# EAGLE library part EPM7064-P100 (library altera)
EPM7064 MAX 7000 family
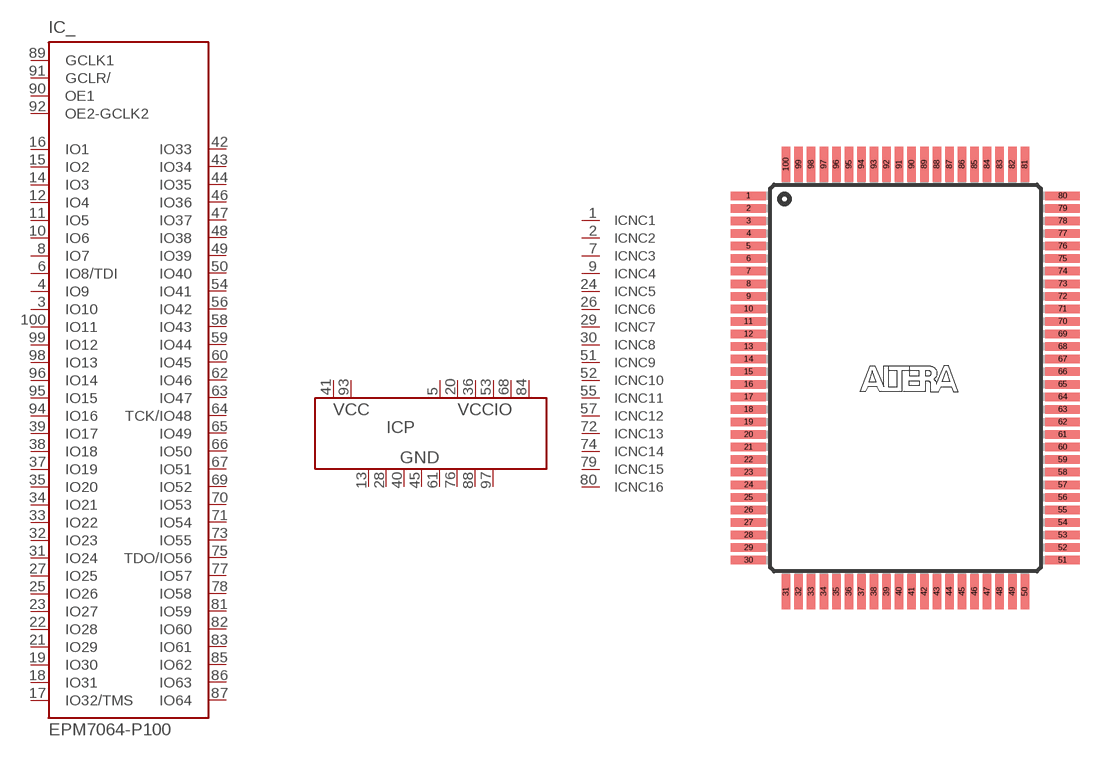
[diagram p5: symbol with the pads of PQFP100; footprint PQFP100]

Designator prefix IC; gates _=EPM7064S P=PWR8-2-6 NC1=NC NC2=NC NC3=NC NC4=NC NC5=NC NC6=NC NC7=NC NC8=NC NC9=NC NC10=NC NC11=NC NC12=NC NC13=NC NC14=NC NC15=NC NC16=NC

## EPM7064-P100 (MPN: EPM7064STI100-7N; OC_FARNELL: 1549426; OC_NEWARK: 51R9650)  [PQFP100]
1  NC1:NC  nc
2  NC2:NC  nc
3  _:IO10
4  _:IO9
5  P:VCCIO  pwr
6  _:IO8/TDI
7  NC3:NC  nc
8  _:IO7
9  NC4:NC  nc
10  _:IO6
11  _:IO5
12  _:IO4
13  P:GND  pwr
14  _:IO3
15  _:IO2
16  _:IO1
17  _:IO32/TMS
18  _:IO31
19  _:IO30
20  P:VCCIO  pwr
21  _:IO29
22  _:IO28
23  _:IO27
24  NC5:NC  nc
25  _:IO26
26  NC6:NC  nc
27  _:IO25
28  P:GND  pwr
29  NC7:NC  nc
30  NC8:NC  nc
31  _:IO24
32  _:IO23
33  _:IO22
34  _:IO21
35  _:IO20
36  P:VCCIO  pwr
37  _:IO19
38  _:IO18
39  _:IO17
40  P:GND  pwr
41  P:VCC  pwr
42  _:IO33
43  _:IO34
44  _:IO35
45  P:GND  pwr
46  _:IO36
47  _:IO37
48  _:IO38
49  _:IO39
50  _:IO40
51  NC9:NC  nc
52  NC10:NC  nc
53  P:VCCIO  pwr
54  _:IO41
55  NC11:NC  nc
56  _:IO42
57  NC12:NC  nc
58  _:IO43
59  _:IO44
60  _:IO45
61  P:GND  pwr
62  _:IO46
63  _:IO47
64  _:TCK/IO48
65  _:IO49
66  _:IO50
67  _:IO51
68  P:VCCIO  pwr
69  _:IO52
70  _:IO53
71  _:IO54
72  NC13:NC  nc
73  _:IO55
74  NC14:NC  nc
75  _:TDO/IO56
76  P:GND  pwr
77  _:IO57
78  _:IO58
79  NC15:NC  nc
80  NC16:NC  nc
81  _:IO59
82  _:IO60
83  _:IO61
84  P:VCCIO  pwr
85  _:IO62
86  _:IO63
87  _:IO64
88  P:GND  pwr
89  _:GCLK1  in
90  _:OE1  in
91  _:GCLR/  in
92  _:OE2-GCLK2  in
93  P:VCC  pwr
94  _:IO16
95  _:IO15
96  _:IO14
97  P:GND  pwr
98  _:IO13
99  _:IO12
100  _:IO11

## Footprint PQFP100 (pad centres in mm)
Plastic Quad Flat Pack
smd 1.8 x 0.44: 1 -8.125,9.425; 2 -8.125,8.775; 3 -8.125,8.125; 4 -8.125,7.475; 5 -8.125,6.825; 6 -8.125,6.175; 7 -8.125,5.525; 8 -8.125,4.875; 9 -8.125,4.225; 10 -8.125,3.575; 11 -8.125,2.925; 12 -8.125,2.275; 13 -8.125,1.625; 14 -8.125,0.975; 15 -8.125,0.325; 16 -8.125,-0.325; 17 -8.125,-0.975; 18 -8.125,-1.625; 19 -8.125,-2.275; 20 -8.125,-2.925; 21 -8.125,-3.575; 22 -8.125,-4.225; 23 -8.125,-4.875; 24 -8.125,-5.525; 25 -8.125,-6.175; 26 -8.125,-6.825; 27 -8.125,-7.475; 28 -8.125,-8.125; 29 -8.125,-8.775; 30 -8.125,-9.425; 51 8.125,-9.425; 52 8.125,-8.775; 53 8.125,-8.125; 54 8.125,-7.475; 55 8.125,-6.825; 56 8.125,-6.175; 57 8.125,-5.525; 58 8.125,-4.875; 59 8.125,-4.225; 60 8.125,-3.575; 61 8.125,-2.925; 62 8.125,-2.275; 63 8.125,-1.625; 64 8.125,-0.975; 65 8.125,-0.325; 66 8.125,0.325; 67 8.125,0.975; 68 8.125,1.625; 69 8.125,2.275; 70 8.125,2.925; 71 8.125,3.575; 72 8.125,4.225; 73 8.125,4.875; 74 8.125,5.525; 75 8.125,6.175; 76 8.125,6.825; 77 8.125,7.475; 78 8.125,8.125; 79 8.125,8.775; 80 8.125,9.425
smd 0.44 x 1.8: 31 -6.175,-11.05; 32 -5.525,-11.05; 33 -4.875,-11.05; 34 -4.225,-11.05; 35 -3.575,-11.05; 36 -2.925,-11.05; 37 -2.275,-11.05; 38 -1.625,-11.05; 39 -0.975,-11.05; 40 -0.325,-11.05; 41 0.325,-11.05; 42 0.975,-11.05; 43 1.625,-11.05; 44 2.275,-11.05; 45 2.925,-11.05; 46 3.575,-11.05; 47 4.225,-11.05; 48 4.875,-11.05; 49 5.525,-11.05; 50 6.175,-11.05; 81 6.175,11.05; 82 5.525,11.05; 83 4.875,11.05; 84 4.225,11.05; 85 3.575,11.05; 86 2.925,11.05; 87 2.275,11.05; 88 1.625,11.05; 89 0.975,11.05; 90 0.325,11.05; 91 -0.325,11.05; 92 -0.975,11.05; 93 -1.625,11.05; 94 -2.275,11.05; 95 -2.925,11.05; 96 -3.575,11.05; 97 -4.225,11.05; 98 -4.875,11.05; 99 -5.525,11.05; 100 -6.175,11.05